# Altium schematic symbol library CONN_10X_3220-10-0300-00.SchLib: 1 symbol
Pins are listed as number, name and electrical type; pins without a type are passive.

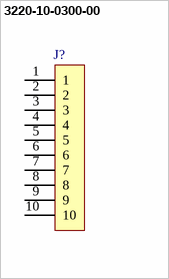
[diagram p0: symbol 3220-10-0300-00]

## 3220-10-0300-00
designator J?
Connector Header Surface Mount 10 position 0.050" (1.27mm); Manufacturer 1: CNC Tech; Manufacturer Part Number 1: 3220-10-0300-00; Datasheet Link: https://www.cnctech.us/pdfs/3220-XX-0300-00_.pdf; Supplier 1: DigiKey; Supplier Part Number 1: 1175-1629-ND
footprint CONN_10x_3220-10-0300-00
pins: 1, 2, 3, 4, 5, 6, 7, 8, 9, 10